# Altium footprint library Vishay Draloric Footprints.PcbLib: 285 footprints (part 9 of 18)
Each footprint in its own frame and in the unit in brackets; x right, y up, seen from the top. Pads: shape width x height; smd on the part's side, far side on the other; paste and mask are expansions set on the pad; w line width, h text height; cw(c..) or ccw(c..) is an arc to the next point about the centre after c.
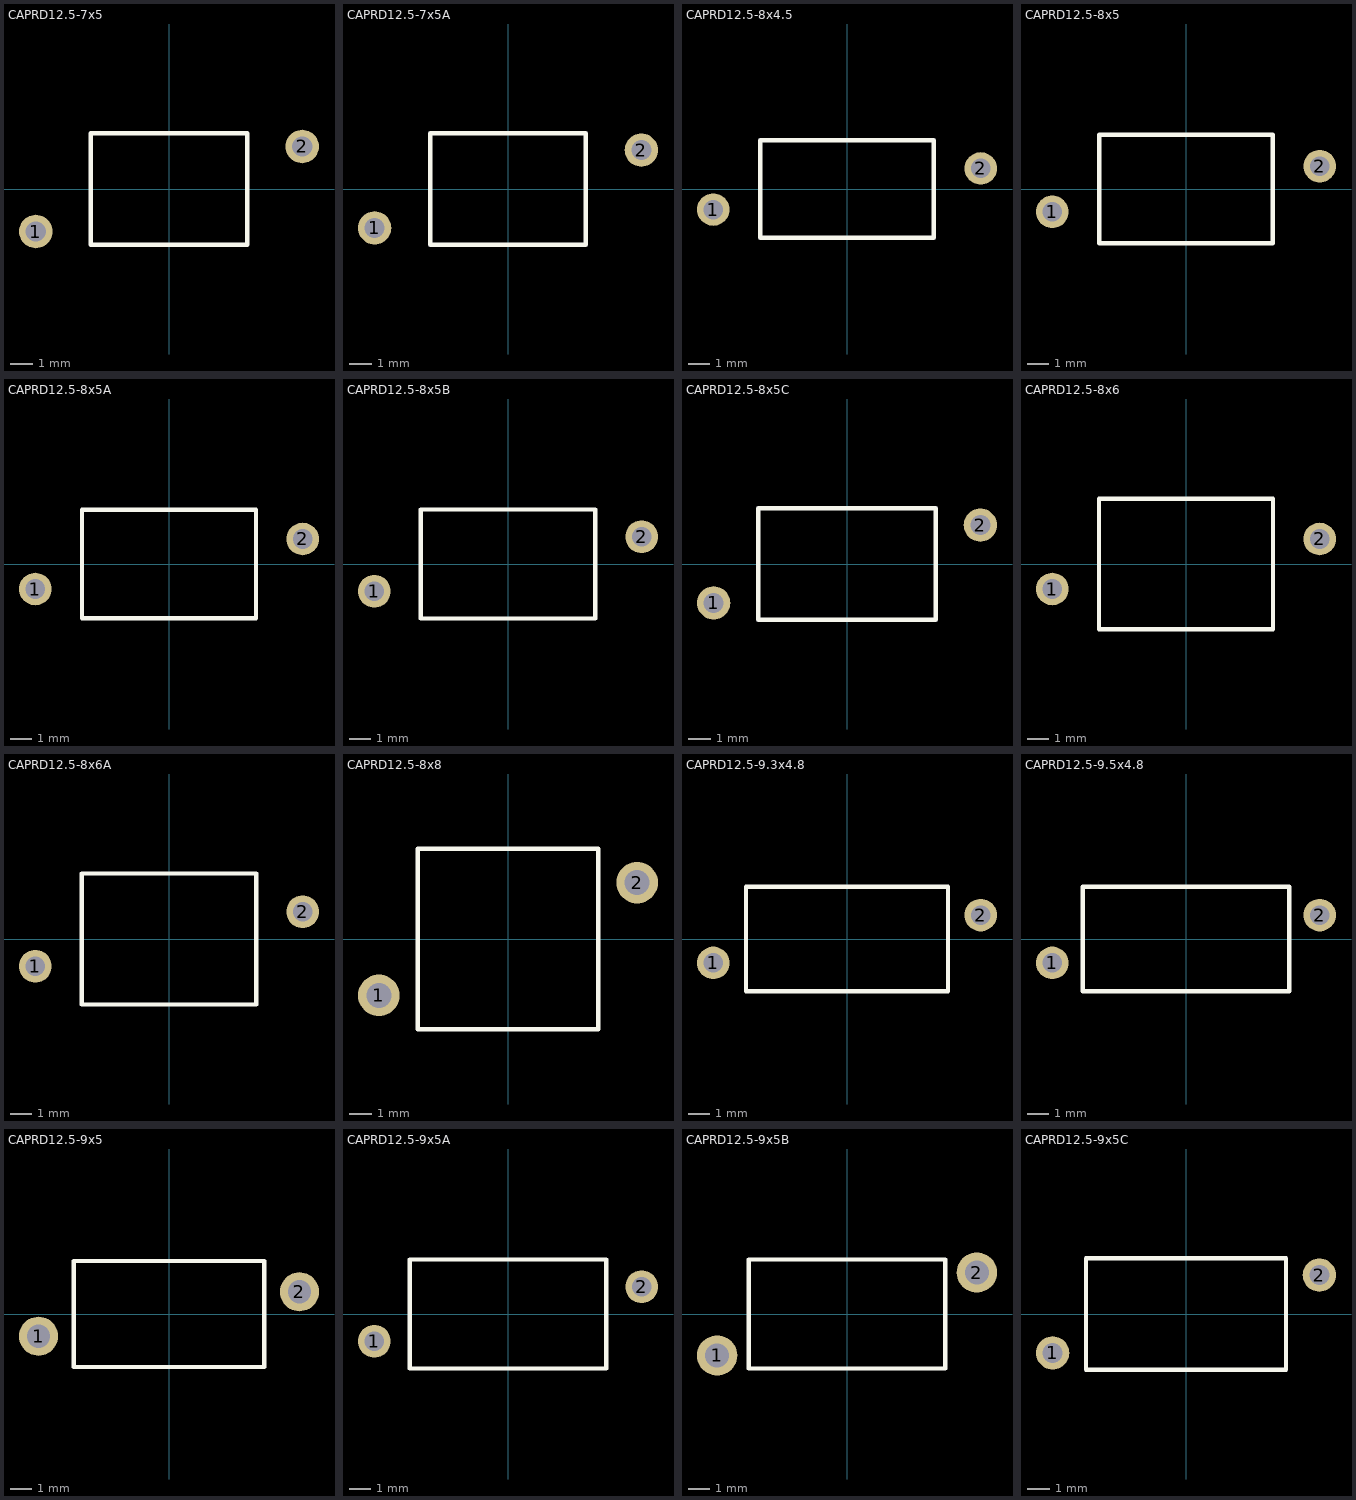
[diagram p8: the footprints below, top view; thin cyan lines are the x and y axes]

## CAPRD12.5-7x5 [mm] "Capacitor, Ceramic, Thru-Hole, Disc; Body 7 x 5 mm (LxW max) Pin Spacing 12.5 mm (typ)"
height 10
pads (2):
  round 1.5 hole 0.9: 1(-5.954,-1.9) 2(5.954,1.9)
Top Overlay:
  lines w0.2: -3.5,-2.5 -3.5,2.5 3.5,2.5 3.5,-2.5 -3.5,-2.5

## CAPRD12.5-7x5A [mm] "Capacitor, Ceramic, Thru-Hole, Disc; Body 7 x 5 mm (LxW max) Pin Spacing 12.5 mm (typ)"
height 10
pads (2):
  round 1.5 hole 0.9: 1(-6,-1.75) 2(6,1.75)
Top Overlay:
  lines w0.2: -3.5,-2.5 -3.5,2.5 3.5,2.5 3.5,-2.5 -3.5,-2.5

## CAPRD12.5-8x4.5 [mm] "Capacitor, Ceramic, Thru-Hole, Disc; Body 8 x 4.5 mm (LxW max) Pin Spacing 12.5 mm (typ)"
height 11
pads (2):
  round 1.5 hole 0.9: 1(-6.177,-0.95) 2(6.177,0.95)
Top Overlay:
  lines w0.2: -4,-2.25 4,-2.25 4,2.25 -4,2.25 -4,-2.25

## CAPRD12.5-8x5 [mm] "Capacitor, Ceramic, Thru-Hole, Disc; Body 8 x 5 mm (LxW max) Pin Spacing 12.5 mm (typ)"
height 11
pads (2):
  round 1.5 hole 0.9: 1(-6.161,-1.05) 2(6.161,1.05)
Top Overlay:
  lines w0.2: -4,-2.5 4,-2.5 4,2.5 -4,2.5 -4,-2.5

## CAPRD12.5-8x5A [mm] "Capacitor, Ceramic, Thru-Hole, Disc; Body 8 x 5 mm (LxW max) Pin Spacing 12.5 mm (typ)"
height 11
pads (2):
  round 1.5 hole 0.9: 1(-6.143,-1.15) 2(6.143,1.15)
Top Overlay:
  lines w0.2: -4,-2.5 -4,2.5 4,2.5 4,-2.5 -4,-2.5

## CAPRD12.5-8x5B [mm] "Capacitor, Ceramic, Thru-Hole, Disc; Body 8 x 5 mm (LxW max) Pin Spacing 12.5 mm (typ)"
height 11
pads (2):
  round 1.5 hole 0.9: 1(-6.124,-1.25) 2(6.124,1.25)
Top Overlay:
  lines w0.2: -4,-2.5 -4,2.5 4,2.5 4,-2.5 -4,-2.5

## CAPRD12.5-8x5C [mm] "Capacitor, Ceramic, Thru-Hole, Disc; Body 8 x 5 mm (LxW max) Pin Spacing 12.5 mm (typ)"
height 11
pads (2):
  round 1.5 hole 0.9: 1(-6,-1.75) 2(6,1.75)
Top Overlay:
  lines w0.2: -4,-2.5 -4,2.5 4,2.5 4,-2.5 -4,-2.5

## CAPRD12.5-8x6 [mm] "Capacitor, Ceramic, Thru-Hole, Disc; Body 8 x 6 mm (LxW max) Pin Spacing 12.5 mm (typ)"
height 11
pads (2):
  round 1.5 hole 0.9: 1(-6.143,-1.15) 2(6.143,1.15)
Top Overlay:
  lines w0.2: -4,-3 4,-3 4,3 -4,3 -4,-3

## CAPRD12.5-8x6A [mm] "Capacitor, Ceramic, Thru-Hole, Disc; Body 8 x 6 mm (LxW max) Pin Spacing 12.5 mm (typ)"
height 11
pads (2):
  round 1.5 hole 0.9: 1(-6.124,-1.25) 2(6.124,1.25)
Top Overlay:
  lines w0.2: -4,-3 -4,3 4,3 4,-3 -4,-3

## CAPRD12.5-8x8 [mm] "Capacitor, Ceramic, Thru-Hole, Disc; Body 8 x 8 mm (LxW max) Pin Spacing 12.5 mm (typ)"
height 11
pads (2):
  round 1.85 hole 1.1: 1(-5.728,-2.5) 2(5.728,2.5)
Top Overlay:
  lines w0.2: -4,-4 4,-4 4,4 -4,4 -4,-4

## CAPRD12.5-9.3x4.8 [mm] "Capacitor, Ceramic, Thru-Hole, Disc; Body 9.3 x 4.8 mm (LxW max) Pin Spacing 12.5 mm (typ)"
height 12.3
pads (2):
  round 1.5 hole 0.9: 1(-6.152,-1.1) 2(6.152,1.1)
Top Overlay:
  lines w0.2: -4.65,-2.4 4.65,-2.4 4.65,2.4 -4.65,2.4 -4.65,-2.4

## CAPRD12.5-9.5x4.8 [mm] "Capacitor, Ceramic, Thru-Hole, Disc; Body 9.5 x 4.8 mm (LxW max) Pin Spacing 12.5 mm (typ)"
height 12.5
pads (2):
  round 1.5 hole 0.9: 1(-6.152,-1.1) 2(6.152,1.1)
Top Overlay:
  lines w0.2: -4.75,-2.4 -4.75,2.4 4.75,2.4 4.75,-2.4 -4.75,-2.4

## CAPRD12.5-9x5 [mm] "Capacitor, Ceramic, Thru-Hole, Disc; Body 9 x 5 mm (LxW max) Pin Spacing 12.5 mm (typ)"
height 12
pads (2):
  round 1.85 hole 1.1: 1(-6.161,-1.05) 2(6.161,1.05)
Top Overlay:
  lines w0.2: -4.5,-2.5 4.5,-2.5 4.5,2.5 -4.5,2.5 -4.5,-2.5

## CAPRD12.5-9x5A [mm] "Capacitor, Ceramic, Thru-Hole, Disc; Body 9 x 5 mm (LxW max) Pin Spacing 12.5 mm (typ)"
height 12
pads (2):
  round 1.5 hole 0.9: 1(-6.124,-1.25) 2(6.124,1.25)
Top Overlay:
  lines w0.2: -4.5,-2.5 -4.5,2.5 4.5,2.5 4.5,-2.5 -4.5,-2.5

## CAPRD12.5-9x5B [mm] "Capacitor, Ceramic, Thru-Hole, Disc; Body 9 x 5 mm (LxW max) Pin Spacing 12.5 mm (typ)"
height 12
pads (2):
  round 1.85 hole 1.1: 1(-5.954,-1.9) 2(5.954,1.9)
Top Overlay:
  lines w0.2: -4.5,-2.5 -4.5,2.5 4.5,2.5 4.5,-2.5 -4.5,-2.5

## CAPRD12.5-9x5C [mm] "Capacitor, Ceramic, Thru-Hole, Disc; Body 9 x 5 mm (LxW max) Pin Spacing 12.5 mm (typ)"
height 12
pads (2):
  round 1.5 hole 0.9: 1(-6,-1.75) 2(6,1.75)
Top Overlay:
  lines w0.2: -4.5,-2.5 -4.5,2.5 4.5,2.5 4.5,-2.5 -4.5,-2.5